# Altium schematic symbol library RM024-P50-M-01.SchLib: 1 symbol
Pins are listed as number, name and electrical type; pins without a type are passive.

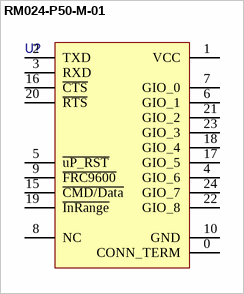
[diagram p0: symbol RM024-P50-M-01]

## RM024-P50-M-01
designator U?, comment RM024  (value not drawn)
pins: 0 CONN_TERM, 1 VCC, 2 TXD, 3 RXD, 4 GIO_6, 5 ~{uP_RST}, 6 GIO_1, 7 GIO_0, 8 NC, 9 ~{FRC9600}, 10 GND, 15 ~{CMD/Data}, 16 ~{CTS}, 17 GIO_5, 18 GIO_4, 19 ~{InRange}, 20 ~{RTS}, 21 GIO_2, 22 GIO_8, 23 GIO_3, 24 GIO_7
1 alternate drawing of the same symbol